# Altium footprint library PcbLib1.PcbLib: 1 footprints
Each footprint in its own frame and in the unit in brackets; x right, y up, seen from the top. Pads: shape width x height; smd on the part's side, far side on the other; paste and mask are expansions set on the pad; w line width, h text height; cw(c..) or ccw(c..) is an arc to the next point about the centre after c.
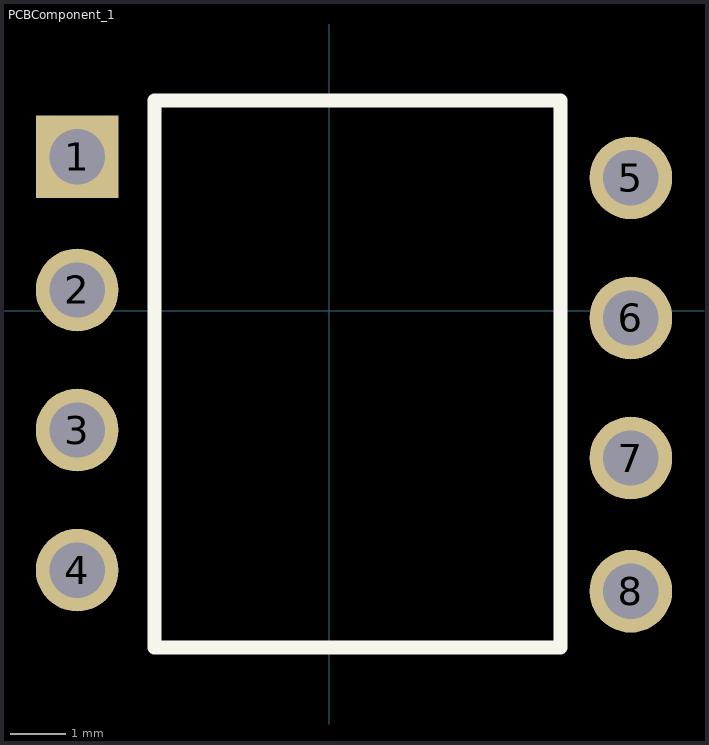
[diagram p0: the footprint, top view; thin cyan lines are the x and y axes]

## PCBComponent_1 [mm]
pads (8):
  rect 1.5x1.5 hole 1: 1(-4.572,2.794)
  round 1.5 hole 1: 2(-4.572,0.381) 3(-4.572,-2.159) 4(-4.572,-4.699) 5(5.461,2.413) 6(5.461,-0.127) 7(5.461,-2.667) 8(5.461,-5.08)
Top Overlay:
  lines w0.254: -3.175,-6.096 4.191,-6.096 4.191,3.81 -3.175,3.81 -3.175,-6.096
3D body "61300411121.stp": height 5.37, standoff -6.17, extent -5.842,-6.223 -3.302,3.937
3D body "61300411121.stp": height 5.37, standoff -6.17, extent 4.191,-6.223 6.731,3.937